# EAGLE library part --MERGED_HEADER-MALE-6X1 (library proxmark3_exported_and_modified_components)
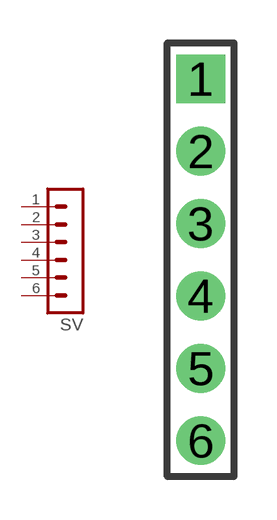
[diagram p4: symbol with the pads of --MERGED_HEADER-MALE-6X1-0.100-UNKEYED; footprint --MERGED_HEADER-MALE-6X1-0.100-UNKEYED]

Designator prefix SV

## --MERGED_HEADER-MALE-6X1  [--MERGED_HEADER-MALE-6X1-0.100-UNKEYED]
1  1  pas
2  2  pas
3  3  pas
4  4  pas
5  5  pas
6  6  pas

## Footprint --MERGED_HEADER-MALE-6X1-0.100-UNKEYED (pad centres in mm)
drill 1.143 square: 1 0,6.35
drill 1.143: 2 0,3.81; 3 0,1.27; 4 0,-1.27; 5 0,-3.81; 6 0,-6.35